# EAGLE library part NRF24L01 (library piweather)
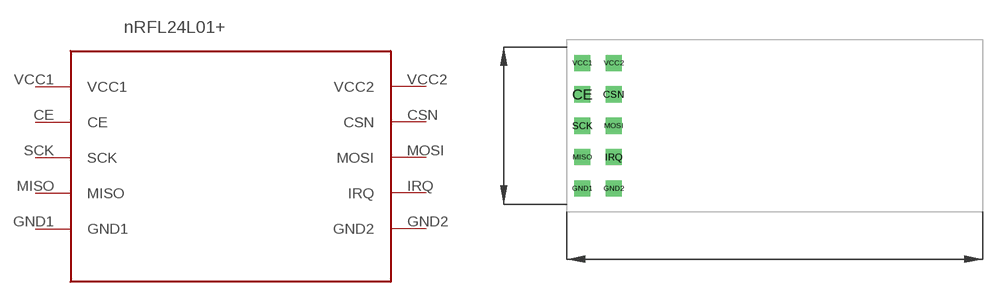
[diagram p2: symbol with the pads of NRF24L01; footprint NRF24L01]

Designator prefix -

## NRF24L0110PINS  [NRF24L01]
CE  CE
CSN  CSN
GND1  GND1
GND2  GND2
IRQ  IRQ
MISO  MISO
MOSI  MOSI
SCK  SCK
VCC1  VCC1
VCC2  VCC2

## Footprint NRF24L01 (pad centres in mm)
drill 0.8 square: CE -16.51,2.54; CSN -13.97,2.54; GND1 -16.51,-5.08; GND2 -13.97,-5.08; IRQ -13.97,-2.54; MISO -16.51,-2.54; MOSI -13.97,0; SCK -16.51,0; VCC1 -16.51,5.08; VCC2 -13.97,5.08